# EAGLE library part K157UD2 (library _mtvl_ic.soviet)
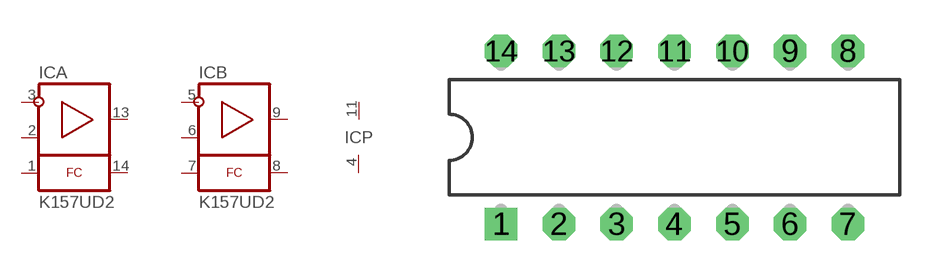
[diagram p7: symbol with the pads of 201.14-1; footprint 201.14-1]

Designator prefix IC; gates A=K157UD2 B=K157UD2 P=PWR+-

## K157UD2  [201.14-1]
1  A:FC1
2  A:IN+
3  A:IN-
4  P:V-  pwr
5  B:IN-
6  B:IN+
7  B:FC1
8  B:FC2
9  B:OUT
11  P:V+  pwr
13  A:OUT
14  A:FC2

## Footprint 201.14-1 (pad centres in mm)
Dual In Line Package
drill 0.9 square: 1 -7.5,-3.75
drill 0.9 octagon: 2 -5,-3.75; 3 -2.5,-3.75; 4 0,-3.75; 5 2.5,-3.75; 6 5,-3.75; 7 7.5,-3.75; 8 7.5,3.75; 9 5,3.75; 10 2.5,3.75; 11 0,3.75; 12 -2.5,3.75; 13 -5,3.75; 14 -7.5,3.75